# Altium footprint library Conn.Wago.PcbLib: 1 footprints
Each footprint in its own frame and in the unit in brackets; x right, y up, seen from the top. Pads: shape width x height; smd on the part's side, far side on the other; paste and mask are expansions set on the pad; w line width, h text height; cw(c..) or ccw(c..) is an arc to the next point about the centre after c.
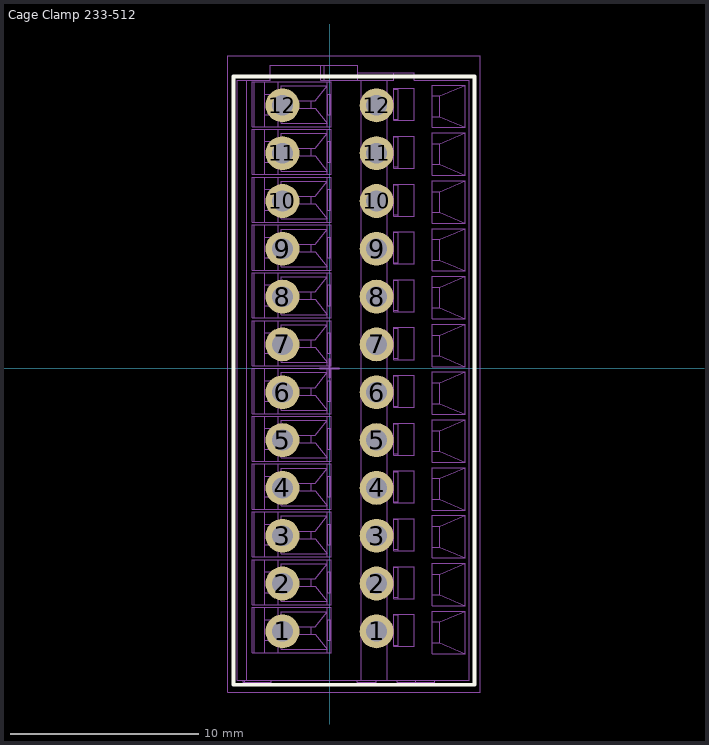
[diagram p0: the footprint, top view; thin cyan lines are the x and y axes]

## Cage Clamp 233-512 [mm] "Wago Cage Clamp Terminal Block, 32.78x13.90mm, 2.54mm Pitch, 12-Lead"
height 15.5
pads (24):
  round 1.8 hole 1.1: 1(-2.5,-13.97) 1(2.5,-13.97) 2(-2.5,-11.43) 2(2.5,-11.43) 3(-2.5,-8.89) 3(2.5,-8.89) 4(-2.5,-6.35) 4(2.5,-6.35) 5(-2.5,-3.81) 5(2.5,-3.81) 6(-2.5,-1.27) 6(2.5,-1.27) 7(-2.5,1.27) 7(2.5,1.27) 8(-2.5,3.81) 8(2.5,3.81) 9(-2.5,6.35) 9(2.5,6.35) 10(-2.5,8.89) 10(2.5,8.89) 11(-2.5,11.43) 11(2.5,11.43) 12(-2.5,13.97) 12(2.5,13.97)
Top Overlay:
  lines w0.2: -5.1,-16.8 -5.1,15.5 7.7,15.5 7.7,-16.8 -5.1,-16.8
Mechanical 1:
  drawing of 557 lines, arcs and shapes, not listed
Mechanical 15:
  lines w0.05: -5.4,-17.2 -5.4,16.6 8,16.6 8,-17.2 -5.4,-17.2
  lines w0.1: -0.5,0 0.5,0 ; 0,-0.5 0,0.5
3D body "Cage-Clamp 233-512.STEP": height 16.44, standoff -4, extent -4.9,-16.67 7.424,16.11